# EAGLE library part LCD_LG132643 (library Ingenialo-Displays)
LCD grafico de 132x64 pixeles fondo blanco, caracteres negros
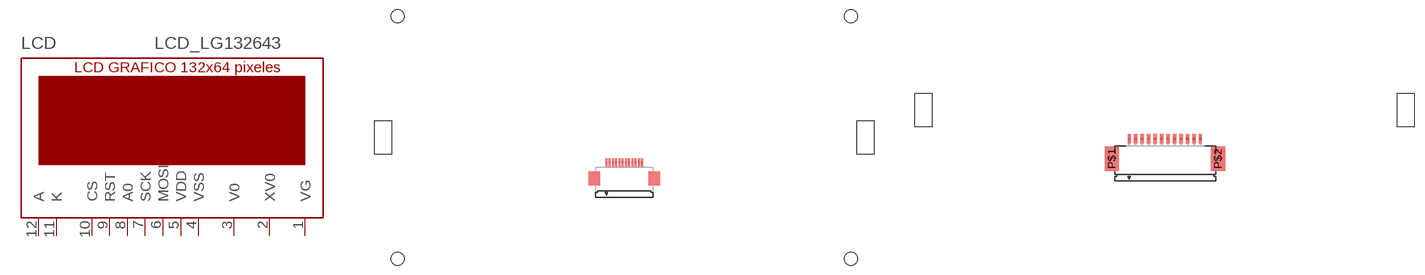
[diagram p0: symbol with the pads of LG132643_P0.5MM; footprints LG132643_P0.5MM, LG132643_P1MM]

Designator prefix LCD

## LCD_LG132643  [LG132643_P0.5MM]
1  VG  in
2  XV0  in
3  V0  in
4  VSS  in
5  VDD  in
6  MOSI  in
7  SCK  in
8  A0  in
9  RST  in
10  CS  in
11  K  pwr
12  A  pwr

## LCD_LG1326431MM  [LG132643_P1MM]
Pads as for LG132643_P0.5MM

## LCD_LG132643DL  [LG132643_DL]
1  VG  in
2  XV0  in
3  V0  in
4  VSS  in
5  VDD  in
6  MOSI  in
7  SCK  in
8  A0  in
9  RST  in
10  CS  in
11  K  pwr
12  A  pwr
13  VG  in
14  XV0  in
15  V0  in
16  VSS  in
17  VDD  in
18  MOSI  in
19  SCK  in
20  A0  in
21  RST  in
22  CS  in
23  K  pwr
24  A  pwr

## Footprint LG132643_P0.5MM (pad centres in mm)
smd 0.3 x 1.3: 1 -2.75,-2.63; 2 -2.25,-2.63; 3 -1.75,-2.63; 4 -1.25,-2.63; 5 -0.75,-2.63; 6 -0.25,-2.63; 7 0.25,-2.63; 8 0.75,-2.63; 9 1.25,-2.63; 10 1.75,-2.63; 11 2.25,-2.63; 12 2.75,-2.63
hole 2 at -35,-17.48
hole 2 at 35,-17.48
hole 2 at 35,20.02
hole 2 at -35,20.02

## Footprint LG132643_P1MM (pad centres in mm)
smd 0.5 x 1.5: 1 -5.46,-4.47; 2 -4.46,-4.47; 3 -3.46,-4.47; 4 -2.46,-4.47; 5 -1.46,-4.47; 6 -0.46,-4.47; 7 0.54,-4.47; 8 1.54,-4.47; 9 2.54,-4.47; 10 3.54,-4.47; 11 4.54,-4.47; 12 5.54,-4.47
smd 2.2 x 3.8: P$1 -8.15,-7.57; P$2 8.25,-7.57

## Footprint LG132643_DL (pad centres in mm)
smd 0.5 x 1.5: 1 -4.96,-7.85; 2 -3.96,-7.85; 3 -2.96,-7.85; 4 -1.96,-7.85; 5 -0.96,-7.85; 6 0.04,-7.85; 7 1.04,-7.85; 8 2.04,-7.85; 9 3.04,-7.85; 10 4.04,-7.85; 11 5.04,-7.85; 12 6.04,-7.85
smd 0.3 x 1.3: 13 -2.25,2.45; 14 -1.75,2.45; 15 -1.25,2.45; 16 -0.75,2.45; 17 -0.25,2.45; 18 0.25,2.45; 19 0.75,2.45; 20 1.25,2.45; 21 1.75,2.45; 22 2.25,2.45; 23 2.75,2.45; 24 3.25,2.45
smd 2.2 x 3.8: P$1 -7.65,-10.95; P$2 8.75,-10.95